# Altium schematic symbol library wiznet.SchLib: 1 symbol
Pins are listed as number, name and electrical type; pins without a type are passive.

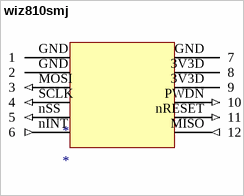
[diagram p0: symbol wiz810smj]

## wiz810smj
designator *
pins: 3V3D 9 (power), 3V3D 8 (power), GND 1 (power), GND 2 (power), GND 7 (power), MISO 12 (out), MOSI 3 (in), nINT 6 (out), nRESET 11 (in), nSS 5 (in), PWDN 10 (in), SCLK 4 (in)